# EAGLE library part KXTF9 (library RoboJackets-Sensors)
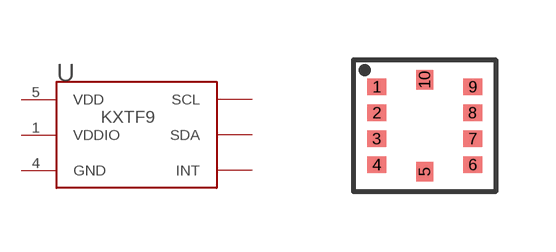
[diagram p2: symbol with the pads of KXTF9; footprint KXTF9]

Designator prefix U

## KXTF9  [KXTF9]
1  VDDIO
4  GND
5  VDD
7  INT
9  SCL
10  SDA

## Footprint KXTF9 (pad centres in mm)
smd 0.48 x 0.42: 1 -1.2,0.975; 2 -1.2,0.325; 3 -1.2,-0.325; 4 -1.2,-0.975; 6 1.2,-0.975; 7 1.2,-0.325; 8 1.2,0.325; 9 1.2,0.975
smd 0.42 x 0.48: 5 0,-1.15; 10 0,1.15